# Altium schematic symbol library MCP7940M-ISN.SchLib: 2 symbols
Pins are listed as number, name and electrical type; pins without a type are passive.

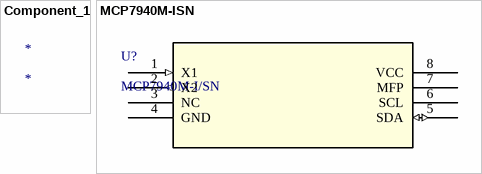
[diagram p0: symbols Component_1 to MCP7940M-ISN]

## Component_1
designator *

## MCP7940M-ISN
designator U?, comment MCP7940M-I/SN
No Description Available; Mfr_Name: Microchip; Copyright: Copyright (C) 2024 Ultra Librarian. All rights reserved.; Manufacturer_Part_Number: MCP7940M-I/SN; RefDes: RefDes; Type: DEV
footprint SOIC8-N_MC_MCH
pins: 1 X1 (in), 2 X2 (out), 3 NC, 4 GND (power), 5 SDA (io), 6 SCL, 7 MFP, 8 VCC (power)